# Altium integrated library PA251621025SALF.IntLib: 1 symbol
Pins are listed as number, name and electrical type; pins without a type are passive.

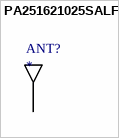
[diagram p0: symbol PA251621025SALF]

## PA251621025SALF
designator ANT?
datasheet: https://www.farnell.com/datasheets/713331.pdf; ComponentLink1Description: farnell; ComponentLink1URL: https://es.farnell.com/api-technologies-spectrum-control/pa251621025salf/patch-antenna-1621mhz-50-ohm/dp/1836073
footprint PA251621025SALF
pins: 1 FEED